# Altium footprint library 2.08-HTSSOP贴片封装.PcbLib: 2 footprints
Each footprint in its own frame and in the unit in brackets; x right, y up, seen from the top. Pads: shape width x height; smd on the part's side, far side on the other; paste and mask are expansions set on the pad; w line width, h text height; cw(c..) or ccw(c..) is an arc to the next point about the centre after c.
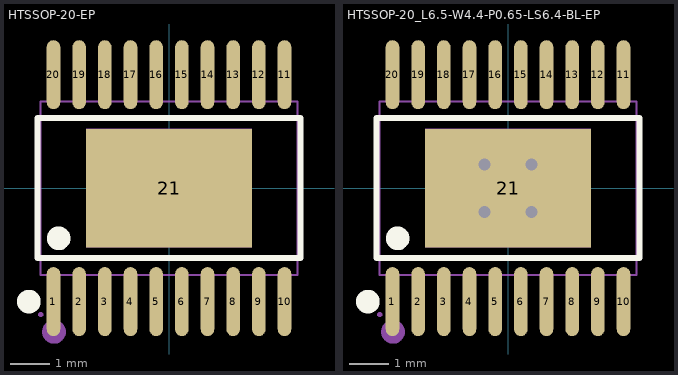
[diagram p0: the footprints below, top view; thin cyan lines are the x and y axes]

## HTSSOP-20-EP [mm]
pads (21):
  oval 0.343x1.747 smd: 1(-2.925,-2.873) 2(-2.275,-2.873) 3(-1.625,-2.873) 4(-0.975,-2.873) 5(-0.325,-2.873) 6(0.325,-2.873) 7(0.975,-2.873) 8(1.625,-2.873) 9(2.275,-2.873) 10(2.925,-2.873) 11(2.925,2.873) 12(2.275,2.873) 13(1.625,2.873) 14(0.975,2.873) 15(0.325,2.873) 16(-0.325,2.873) 17(-0.975,2.873) 18(-1.625,2.873) 19(-2.275,2.873) 20(-2.925,2.873)
  rect 4.2x3 smd: 21(0,0)
Top Overlay:
  circle w0.3: c-2.794,-1.27 r0.15
  circle w0.3: c-3.549,-2.873 r0.15
  lines w0.152: -3.326,-1.771 3.326,-1.771 3.326,1.771 -3.326,1.771 -3.326,-1.771
Mechanical 6:
  circle w0.3: c-2.912,-3.638 r0.15
Mechanical 15:
  drawing of 46 lines, arcs and shapes, not listed
3D body "HTSSOP-20_L6.5-W4.4-P0.65-LS6.4-BL-EP~HTSSOP-20_L6.5-W4.4-H1.2-LS6.4-P0.65~mGhr.STEP": height 1.3, standoff 0, extent -3.24,-3.196 3.24,3.196

## HTSSOP-20_L6.5-W4.4-P0.65-LS6.4-BL-EP [mm]
pads (21):
  oval 0.343x1.747 smd: 1(-2.925,-2.873) 2(-2.275,-2.873) 3(-1.625,-2.873) 4(-0.975,-2.873) 5(-0.325,-2.873) 6(0.325,-2.873) 7(0.975,-2.873) 8(1.625,-2.873) 9(2.275,-2.873) 10(2.925,-2.873) 11(2.925,2.873) 12(2.275,2.873) 13(1.625,2.873) 14(0.975,2.873) 15(0.325,2.873) 16(-0.325,2.873) 17(-0.975,2.873) 18(-1.625,2.873) 19(-2.275,2.873) 20(-2.925,2.873)
  rect 4.2x3 smd: 21(0,0)
via 0.6,-0.6 diameter 0.61 hole 0.305
via -0.6,-0.6 diameter 0.61 hole 0.305
via -0.6,0.6 diameter 0.61 hole 0.305
via 0.6,0.6 diameter 0.61 hole 0.305
Top Overlay:
  circle w0.3: c-2.794,-1.27 r0.15
  circle w0.3: c-3.549,-2.873 r0.15
  lines w0.152: -3.326,-1.771 3.326,-1.771 3.326,1.771 -3.326,1.771 -3.326,-1.771
Mechanical 6:
  circle w0.3: c-2.912,-3.638 r0.15
Mechanical 15:
  drawing of 46 lines, arcs and shapes, not listed
3D body "HTSSOP-20_L6.5-W4.4-P0.65-LS6.4-BL-EP~HTSSOP-20_L6.5-W4.4-H1.2-LS6.4-P0.65~mGhr.STEP": height 1.3, standoff 0, extent -3.24,-3.196 3.24,3.196